# Altium schematic symbol library Connectors.SchLib: 13 symbols
Pins are listed as number, name and electrical type; pins without a type are passive.

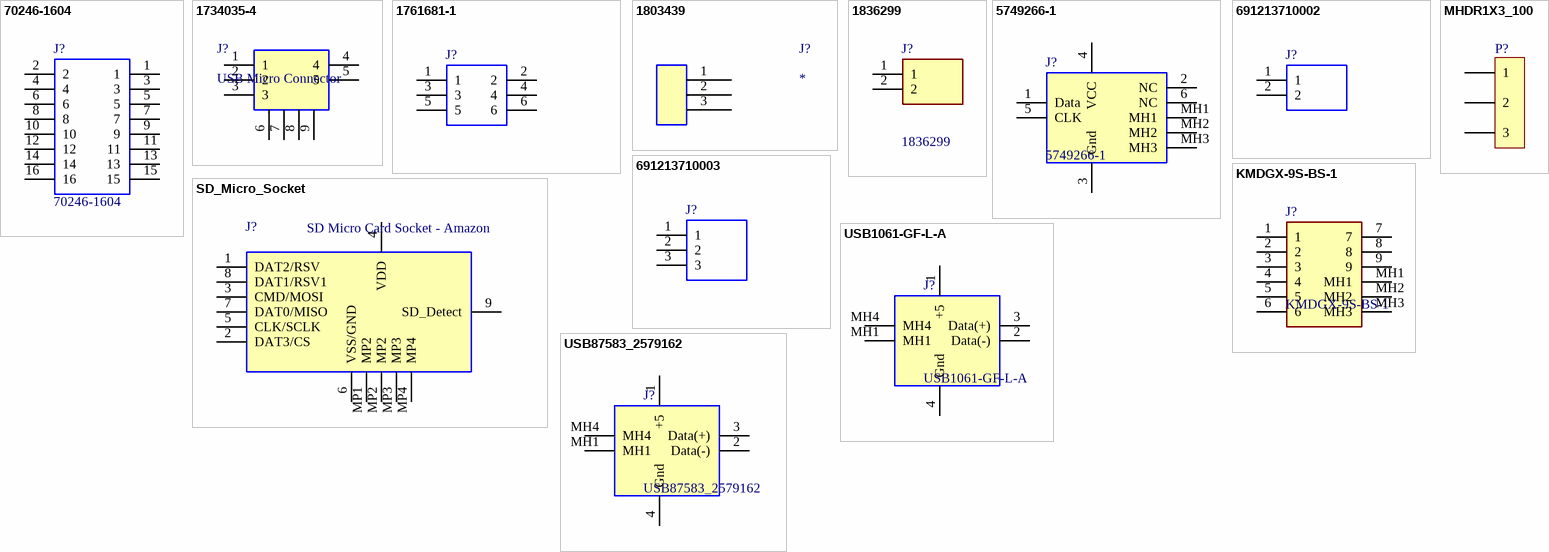
[diagram p0: symbols 70246-1604 to USB87583_2579162]

## 70246-1604
designator J?
Molex C-GRID 70246, 2.54mm Pitch, 16 Way, 2 Row, Straight PCB Header, Through Hole; Geometry.Height: 9.27mm; Mouser Part Number: 538-70246-1604; Mouser Price/Stock: https://www.mouser.co.uk/ProductDetail/Molex/70246-1604?qs=KUIzHt%2Fe91njhb67Cjmalw%3D%3D; Manufacturer_Name: Molex; Manufacturer_Part_Number: 70246-1604; Datasheet Link: https://www.molex.com/pdm_docs/sd/702461604_sd.pdf
footprint SHDR16W99P254_2X8_2794X889X927P
pins: 1, 2, 3, 4, 5, 6, 7, 8, 9, 10, 11, 12, 13, 14, 15, 16

## 1734035-4
designator J?, comment USB Micro Connector
USB Micro Connector SMD; Manufacturer_Name: TE Connectivity; Manufacturer_Part_Number: 1734035-4; Datasheet Link: https://componentsearchengine.com//1734035-4.pdf; Mouser2 Part Number: 571-1734035-4; Mouser2 Price/Stock: https://www.mouser.com/Search/Refine.aspx?Keyword=571-1734035-4
footprint 1734035-2USB
pins: 1, 2, 3, 4, 5, 6 Shield, 7 Shield, 8 Shield, 9 Shield5

## 1761681-1
designator J?
Header vert 6 way 2.54mm AmpLatch; Manufacturer_Name: TE Connectivity; Geometry.Height: 9.22mm; Mouser Part Number: 571-1761681-1; Mouser Price/Stock: https://www.mouser.co.uk/ProductDetail/TE-Connectivity/1761681-1?qs=BqFpTYCQ3dLAeZ2wzdz7aw%3D%3D; Manufacturer_Part_Number: 1761681-1; Datasheet Link: https://www.te.com/commerce/DocumentDelivery/DDEController?Action=showdoc&DocId=Customer+Drawing%7F1761681%7FA1%7Fpdf%7FEnglish%7FENG_CD_1761681_A1.pdf%7F1761681-1
footprint SHDR6W67P254_2X3_1524X916X922P
pins: 1, 2, 3, 4, 5, 6

## 1803439
designator J?
Connector; Manufacturer_Name: Phoenix Contact; Manufacturer_Part_Number: 1803439; Datasheet Link: http://uk.rs-online.com/web/p/products/2204838; Mouser Part Number: 651-1803439; Mouser Price/Stock: https://www.mouser.co.uk/ProductDetail/Phoenix-Contact/1803439?qs=ChwaSN6Xm4%2FKqu7eZUAe4w%3D%3D; Arrow Part Number: 1803439; Arrow Price/Stock: https://www.arrow.com/en/products/1803439/phoenix-contact?region=nac
footprint 1803439
pins: 1, 2, 3

## 1836299
designator J?
Phoenix Contact MCV Series, 5.08mm Pitch 2 Way Base Strip, Solder Termination, 8A; Geometry.Height: 9.35mm; Mouser Part Number: 651-1836299; Mouser Price/Stock: https://www.mouser.co.uk/ProductDetail/Phoenix-Contact/1836299?qs=W3wJikR1%252BS4CgO2c38K3Tg%3D%3D; Manufacturer_Name: Phoenix Contact; Manufacturer_Part_Number: 1836299; Datasheet Link: https://www.phoenixcontact.com/en-in/products/pcb-header-mcv-15-2-g-508-1836299
footprint 1836299
pins: 1, 2

## 5749266-1
designator J?
Circular DIN Connectors 6 P R/A W/O HOLDDOWN; Manufacturer_Name: TE Connectivity; Geometry.Height: 13mm; Mouser Part Number: 571-5749266-1; Mouser Price/Stock: https://www.mouser.co.uk/ProductDetail/TE-Connectivity/5749266-1?qs=XlZqES4cpWaWvZ%2F3L%252BlRxA%3D%3D; Manufacturer_Part_Number: 5749266-1; Datasheet Link: https://componentsearchengine.com/Datasheets/1/5749266-1.pdf
footprint 57492661
pins: 1 Data, 2 NC, 3 Gnd, 4 VCC, 5 CLK, 6 NC, MH1, MH2, MH3

## 691213710002
designator J?
Wurth Elektronik, 213, 2 Way PCB Terminal Strip 5.0MM HORIZONTAL ENTRY MODULAR WITH RISING CAGE CLAMP - 1.5MM WIRES WR-TBL; Geometry.Height: 10.2mm; Mouser Part Number: 710-691213710002; Mouser Price/Stock: https://www.mouser.co.uk/ProductDetail/Wurth-Elektronik/691213710002?qs=7gQLVZk5cPkuKXksY6RqhA%3D%3D; Manufacturer_Name: Wurth Elektronik; Manufacturer_Part_Number: 691213710002; Datasheet Link: *
footprint 691213710002
pins: 1, 2

## 691213710003
designator J?, comment 3 TB
Fixed Terminal Blocks WR-TBL Terminal block - Rising Cage - THT; Manufacturer_Name: Wurth Elektronik; Manufacturer_Part_Number: 691213710003; Geometry.Height: 10mm; Mouser Part Number: 710-691213710003; Mouser Price/Stock: https://www.mouser.co.uk/ProductDetail/Wurth-Elektronik/691213710003?qs=2kOmHSv6VfRna0wS7p6b1w%3D%3D; Datasheet Link: https://www.we-online.com/catalog/datasheet/691213710003.pdf
footprint 691213710003
pins: 1, 2, 3

## KMDGX-9S-BS-1
designator J?
Circular DIN Connectors MINI-DIN FULL SHIELD 9P GOLD PLATED R/T; Manufacturer_Name: Kycon; Geometry.Height: 13mm; Mouser Part Number: 806-KMDGX-9S-BS-1; Mouser Price/Stock: https://www.mouser.co.uk/ProductDetail/Kycon/KMDGX-9S-BS-1?qs=3jNSNtuqJTLHFNoAAeP35w%3D%3D; Manufacturer_Part_Number: KMDGX-9S-BS-1; Datasheet Link: https://media.digikey.com/pdf/Data%20Sheets/Kycon%20PDFs/KMDGX-9S-BS-1_Dwg.pdf
footprint KMDGX9SBS1
pins: 1, 2, 3, 4, 5, 6, 7, 8, 9, MH1, MH2, MH3

## MHDR1X3_100
designator P?
Header, 3-Pin; LatestRevisionDate: 17-Jul-2002; LatestRevisionNote: Re-released for DXP Platform.; Publisher: Altium Limited
footprint MHDR1X3_100 (Connector; Header; 3 Position)
pins: 1, 2, 3

## SD_Micro_Socket
designator J?, comment SD Micro Card Socket - Amazon
Memory Card Connectors 9P R/A SMT MICRO SD HINGE PUSH-PULL; Manufacturer_Name: Hirose; Manufacturer_Part_Number: DM3CS-SF; Geometry.Height: 1.83mm; Mouser Part Number: 798-DM3CSSF; Mouser Price/Stock: https://www.mouser.co.uk/ProductDetail/Hirose-Connector/DM3CS-SF?qs=tTj%252BmQ3KZwbB9K5zh89Rcw%3D%3D; Datasheet Link: https://datasheet.lcsc.com/szlcsc/Hirose-HRS-DM3CS-SF_C202111.pdf
footprint SDMicroConnector
pins: 1 DAT2/RSV, 2 DAT3/CS, 3 CMD/MOSI, 4 VDD, 5 CLK/SCLK, 6 VSS/GND, 7 DAT0/MISO, 8 DAT1/RSV1, 9 SD_Detect, MP1 MP2, MP2, MP3, MP4

## USB1061-GF-L-A
designator J?
USB Connectors USB A Plug, SMT, R/A, GF, With Kinked shell stakes and posts, T&R; Manufacturer_Name: GCT (GLOBAL CONNECTOR TECHNOLOGY); Geometry.Height: 4.6mm; Mouser Part Number: 640-USB1061-GF-L-A; Mouser Price/Stock: https://www.mouser.co.uk/ProductDetail/GCT/USB1061-GF-L-A?qs=KUoIvG%2F9IlYSthVIrIBVzQ%3D%3D; Manufacturer_Part_Number: USB1061-GF-L-A; Datasheet Link: https://gct.co/connector/usb1061
footprint USB1061GFLA
pins: 1 +5, 2 Data(-), 3 Data(+), 4 Gnd, MH1, MH4

## USB87583_2579162
designator J?
USB Connectors USB A Plug, SMT, R/A, GF, With Kinked shell stakes and posts, T&R; Manufacturer_Name: GCT (GLOBAL CONNECTOR TECHNOLOGY); Manufacturer_Part_Number: USB1061-GF-L-A; Geometry.Height: 4.6mm; Mouser Part Number: 640-USB1061-GF-L-A; Mouser Price/Stock: https://www.mouser.co.uk/ProductDetail/GCT/USB1061-GF-L-A?qs=KUoIvG%2F9IlYSthVIrIBVzQ%3D%3D; Datasheet Link: https://gct.co/connector/usb1061
footprint 87583-2579162 (USB Female Connector)
pins: 1 +5, 2 Data(-), 3 Data(+), 4 Gnd, MH1, MH4